# Altium footprint library FTSH.PcbLib: 1 footprints
Each footprint in its own frame and in the unit in brackets; x right, y up, seen from the top. Pads: shape width x height; smd on the part's side, far side on the other; paste and mask are expansions set on the pad; w line width, h text height; cw(c..) or ccw(c..) is an arc to the next point about the centre after c.
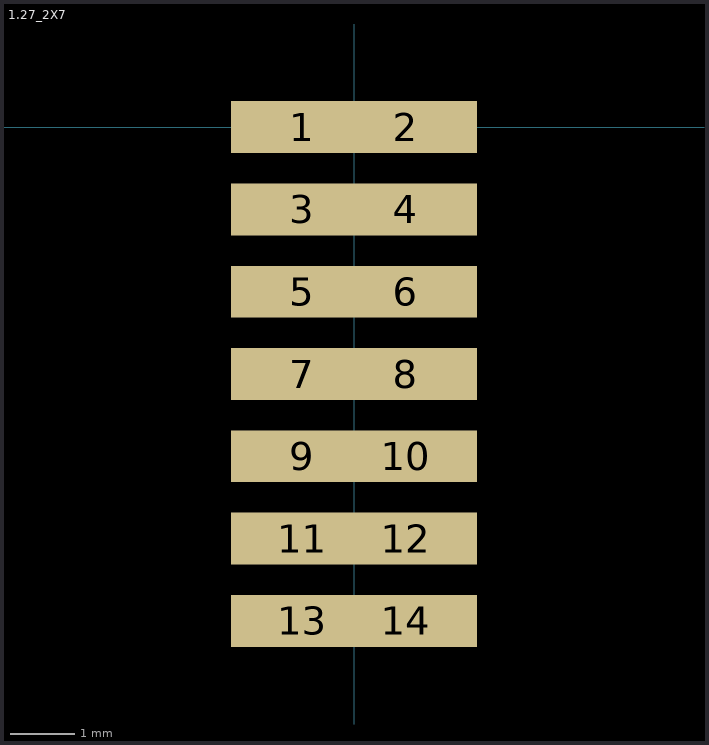
[diagram p0: the footprint, top view; thin cyan lines are the x and y axes]

## 1.27_2X7 [mm]
pads (14):
  rect 2.2x0.8 smd: 1(-0.8,0) 2(0.8,0) 3(-0.8,-1.27) 4(0.8,-1.27) 5(-0.8,-2.54) 6(0.8,-2.54) 7(-0.8,-3.81) 8(0.8,-3.81) 9(-0.8,-5.08) 10(0.8,-5.08) 11(-0.8,-6.35) 12(0.8,-6.35) 13(-0.8,-7.62) 14(0.8,-7.62)
3D body "FTSH-107-01-L-DV-K.stp": height 6.1, standoff -0.02, extent -2.921,-8.255 2.921,0.635